# Altium footprint library SOT-23-6-TI.PcbLib: 1 footprints
Each footprint in its own frame and in the unit in brackets; x right, y up, seen from the top. Pads: shape width x height; smd on the part's side, far side on the other; paste and mask are expansions set on the pad; w line width, h text height; cw(c..) or ccw(c..) is an arc to the next point about the centre after c.
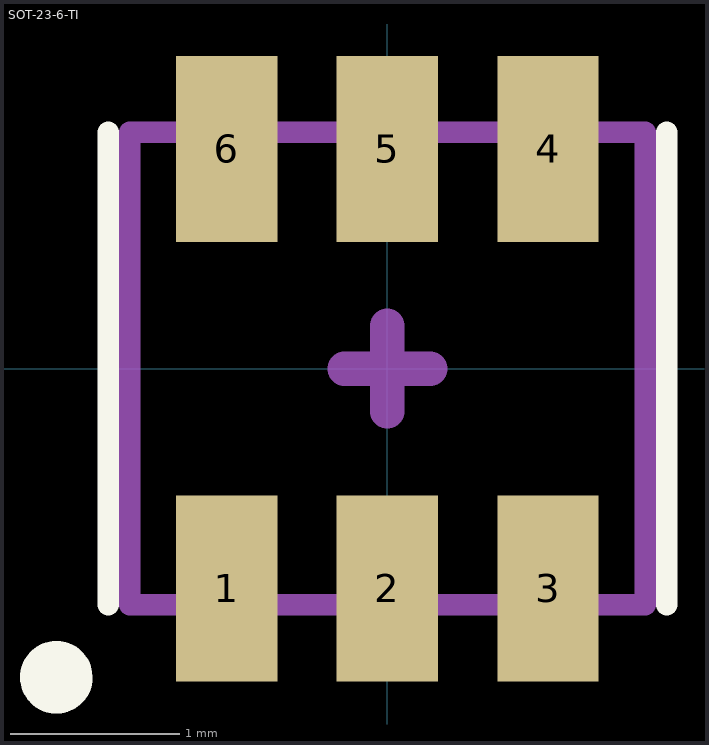
[diagram p0: the footprint, top view; thin cyan lines are the x and y axes]

## SOT-23-6-TI [mm]
pads (6):
  rect 0.6x1.1 smd mask+0.1: 1(-0.95,-1.3) 2(0,-1.3) 3(0.95,-1.3) 4(0.95,1.3) 5(0,1.3) 6(-0.95,1.3)
Top Overlay:
  lines w0.127: -1.651,-1.397 -1.651,1.397 ; 1.651,-1.397 1.651,1.397
  lines w0.254: -1.873,-1.803 ccw(c-1.958,-1.826) -1.87,-1.826
Top Designator:
  text ".Designator" at -7.847,-0.553 h1.52
Mechanical 13:
  lines w0.127: -1.524,-1.397 1.524,-1.397 1.524,1.397 -1.524,1.397 -1.524,-1.397
Mechanical 15:
  lines w0.203: -0.254,0 0,0 ; 0,-0.254 0,0.254 0,0 ; 0.254,0 0,0
3D body "sot-23-6.stp": height 1.1, standoff -0.01, extent -1.46,-1.422 1.46,1.422